# Altium footprint library BM04B-GHS-TBTLFSN.PcbLib: 1 footprints
Each footprint in its own frame and in the unit in brackets; x right, y up, seen from the top. Pads: shape width x height; smd on the part's side, far side on the other; paste and mask are expansions set on the pad; w line width, h text height; cw(c..) or ccw(c..) is an arc to the next point about the centre after c.
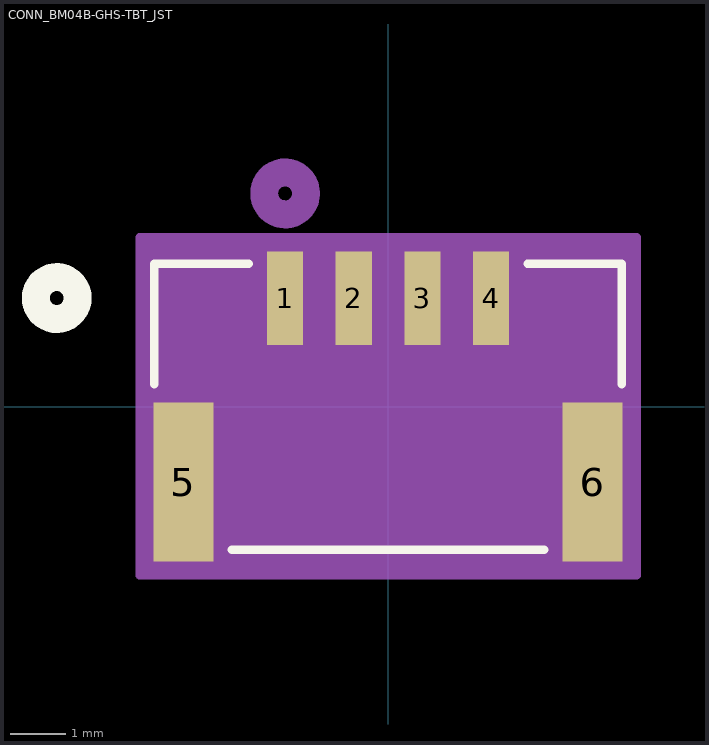
[diagram p0: the footprint, top view; thin cyan lines are the x and y axes]

## CONN_BM04B-GHS-TBT_JST [mil]
pads (6):
  rect 26x67 smd paste+0 mask+0: 1(-73.82,77.81) 2(-24.61,77.81) 3(24.61,77.81) 4(73.82,77.81)
  rect 43x114 smd paste-57 mask-57: 5(-146.65,-54.07) 6(146.65,-54.07)
Top Overlay:
  circle w20: c-237.5,77.81 r15
  lines w6: -167.5,16.03 -167.5,102.5 -99.92,102.5 ; -112.05,-102.5 112.05,-102.5 ; 99.92,102.5 167.5,102.5 167.5,16.03
Bottom Overlay:
  circle w20: c-237.5,77.81 r15
Mechanical 13:
  circle w20: c-73.82,152.81 r15
  lines w1: -162.5,-97.5 -162.5,97.5 162.5,97.5 162.5,-97.5 -162.5,-97.5
Mechanical 15:
  region: 178.15,121.31 -178.15,121.31 -178.15,-121.07 178.15,-121.07
  lines w6: -178.15,-121.07 178.15,-121.07 178.15,121.31 -178.15,121.31 -178.15,-121.07